# EAGLE library part LOGIC,BUFFER,10-BIT,TRI (library QuantumOptics)
Buffer, 10-bit, tristate, such as TI SN74ABT827/2827.
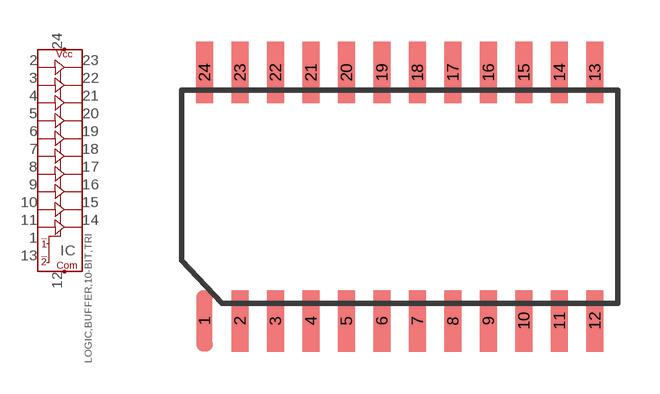
[diagram p197: symbol with the pads of SOIC24; footprint SOIC24]

Designator prefix IC

## LOGIC,BUFFER,10-BIT,TRI-SOIC24  [SOIC24]
1  !OE1  in
2  IN0  in
3  IN1  in
4  IN2  in
5  IN3  in
6  IN4  in
7  IN5  in
8  IN6  in
9  IN7  in
10  IN8  in
11  IN9  in
12  COM
13  !OE2  in
14  OUT9  out
15  OUT8  out
16  OUT7  out
17  OUT6  out
18  OUT5  out
19  OUT4  out
20  OUT3  out
21  OUT2  out
22  OUT1  out
23  OUT0  out
24  VCC

## Footprint SOIC24 (pad centres in mm)
SOIC-24, TI's DW package, 0.05" pad spacing with 10mm (0.394") wide case and 10.63WOA.
smd 0.6 x 2.2: 1 -6.985,-4.445; 2 -5.715,-4.445; 3 -4.445,-4.445; 4 -3.175,-4.445; 5 -1.905,-4.445; 6 -0.635,-4.445; 7 0.635,-4.445; 8 1.905,-4.445; 9 3.175,-4.445; 10 4.445,-4.445; 11 5.715,-4.445; 12 6.985,-4.445; 13 6.985,4.445; 14 5.715,4.445; 15 4.445,4.445; 16 3.175,4.445; 17 1.905,4.445; 18 0.635,4.445; 19 -0.635,4.445; 20 -1.905,4.445; 21 -3.175,4.445; 22 -4.445,4.445; 23 -5.715,4.445; 24 -6.985,4.445